# Altium schematic symbol library DRV8833PWP.Schlib: 1 symbol
Pins are listed as number, name and electrical type; pins without a type are passive.

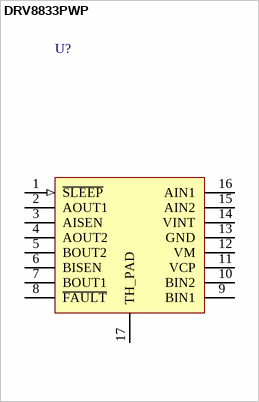
[diagram p0: symbol DRV8833PWP]

## DRV8833PWP
designator U?
10.8V, 2A, Dual H-Bridge Motor Driver
pins: 1 ~{SLEEP} (in), 2 AOUT1, 3 AISEN, 4 AOUT2, 5 BOUT2, 6 BISEN, 7 BOUT1, 8 ~{FAULT} (oc), 9 BIN1, 10 BIN2, 11 VCP, 12 VM, 13 GND, 14 VINT, 15 AIN2, 16 AIN1, 17 TH_PAD (power)